# Altium schematic symbol library APT3216LSECK_J3-PRV.SchLib: 1 symbol
Pins are listed as number, name and electrical type; pins without a type are passive.

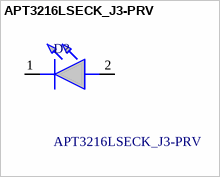
[diagram p0: symbol APT3216LSECK_J3-PRV]

## APT3216LSECK_J3-PRV
designator D?
3.2X1.6mm Low Current Red SMD LED; Water Clear; 625nm; 120 Viewing Angle; Manufacturer_Name: Kingbright; Manufacturer_Part_Number: APT3216LSECK/J3-PRV; Geometry.Height: 0.95mm; Mouser Part Number: 604-APT3216LSECKJ3RV; Mouser Price/Stock: https://www.mouser.co.uk/ProductDetail/Kingbright/APT3216LSECK-J3-PRV?qs=6oMev5NRZMH6FCB40E9NQw%3D%3D; Datasheet Link: https://componentsearchengine.com/Datasheets/1/APT3216LSECK_J3-PRV.pdf
footprint LEDC3216X95N
pins: 1 K, 2 A